# EAGLE library part A3935 (library allegro)
Three Phase Power MOSFET Controller Uses external MOSFETs, provides diagnostic outputs. Temp range -40 to 135 C
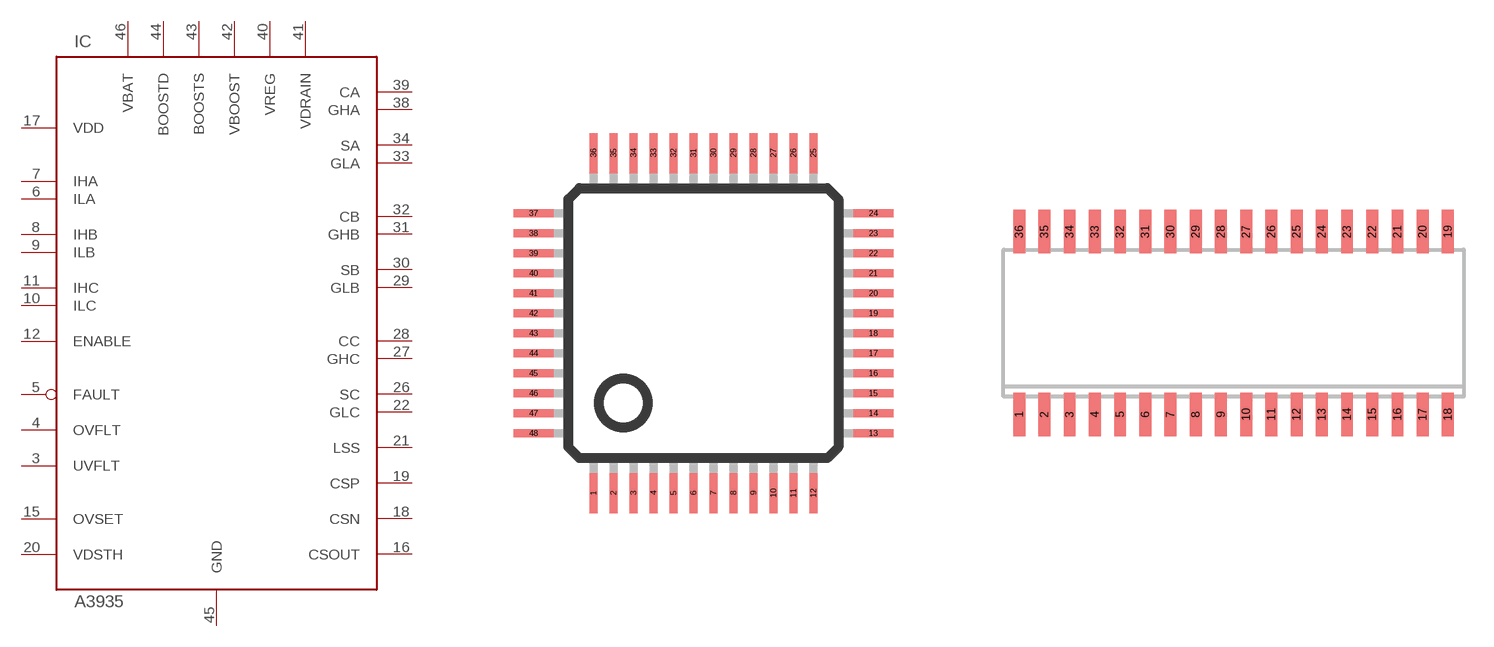
[diagram p5: symbol with the pads of LQFP48; footprints LQFP48, SO36W]

Designator prefix IC

## A3935KJP  [LQFP48]
3  UVFLT  out
4  OVFLT  out
5  FAULT  out
6  ILA  in
7  IHA  in
8  IHB  in
9  ILB  in
10  ILC  in
11  IHC  in
12  ENABLE  in
15  OVSET  in
16  CSOUT  out
17  VDD  pwr
18  CSN  in
19  CSP  in
20  VDSTH  in
21  LSS  pwr
22  GLC  out
26  SC  out
27  GHC  out
28  CC  out
29  GLB  out
30  SB  out
31  GHB  out
32  CB  out
33  GLA  out
34  SA  out
38  GHA  out
39  CA  out
40  VREG  pwr
41  VDRAIN  pwr
42  VBOOST
43  BOOSTS
44  BOOSTD
45  GND  pwr
46  VBAT  pwr

## A3935KLQ  [SO36W]
1  CSP  in
2  VDSTH  in
3  LSS  pwr
4  GLC  out
5  SC  out
6  GHC  out
7  CC  out
8  GLB  out
9  SB  out
10  GHB  out
11  CB  out
12  GLA  out
13  SA  out
14  GHA  out
15  CA  out
16  VREG  pwr
17  VDRAIN  pwr
18  VBOOST
19  BOOSTS
20  BOOSTD
21  GND  pwr
22  VBAT  pwr
23  UVFLT  out
24  OVFLT  out
25  FAULT  out
26  ILA  in
27  IHA  in
28  IHB  in
29  ILB  in
30  ILC  in
31  IHC  in
32  ENABLE  in
33  OVSET  in
34  CSOUT  out
35  VDD  pwr
36  CSN  in

## Footprint LQFP48 (pad centres in mm)
48-pin Low Profile Quad Flat Pack
smd 0.2 x 1: 1 -2.75,-4.25; 2 -2.25,-4.25; 3 -1.75,-4.25; 4 -1.25,-4.25; 5 -0.75,-4.25; 6 -0.25,-4.25; 7 0.25,-4.25; 8 0.75,-4.25; 9 1.25,-4.25; 10 1.75,-4.25; 11 2.25,-4.25; 12 2.75,-4.25; 25 2.75,4.25; 26 2.25,4.25; 27 1.75,4.25; 28 1.25,4.25; 29 0.75,4.25; 30 0.25,4.25; 31 -0.25,4.25; 32 -0.75,4.25; 33 -1.25,4.25; 34 -1.75,4.25; 35 -2.25,4.25; 36 -2.75,4.25
smd 1 x 0.2: 13 4.25,-2.75; 14 4.25,-2.25; 15 4.25,-1.75; 16 4.25,-1.25; 17 4.25,-0.75; 18 4.25,-0.25; 19 4.25,0.25; 20 4.25,0.75; 21 4.25,1.25; 22 4.25,1.75; 23 4.25,2.25; 24 4.25,2.75; 37 -4.25,2.75; 38 -4.25,2.25; 39 -4.25,1.75; 40 -4.25,1.25; 41 -4.25,0.75; 42 -4.25,0.25; 43 -4.25,-0.25; 44 -4.25,-0.75; 45 -4.25,-1.25; 46 -4.25,-1.75; 47 -4.25,-2.25; 48 -4.25,-2.75

## Footprint SO36W (pad centres in mm)
36-pin Small Outline Package
smd 0.6 x 2.2: 1 -10.795,-4.6; 2 -9.525,-4.6; 3 -8.255,-4.6; 4 -6.985,-4.6; 5 -5.715,-4.6; 6 -4.445,-4.6; 7 -3.175,-4.6; 8 -1.905,-4.6; 9 -0.635,-4.6; 10 0.635,-4.6; 11 1.905,-4.6; 12 3.175,-4.6; 13 4.445,-4.6; 14 5.715,-4.6; 15 6.985,-4.6; 16 8.255,-4.6; 17 9.525,-4.6; 18 10.795,-4.6; 19 10.795,4.6; 20 9.525,4.6; 21 8.255,4.6; 22 6.985,4.6; 23 5.715,4.6; 24 4.445,4.6; 25 3.175,4.6; 26 1.905,4.6; 27 0.635,4.6; 28 -0.635,4.6; 29 -1.905,4.6; 30 -3.175,4.6; 31 -4.445,4.6; 32 -5.715,4.6; 33 -6.985,4.6; 34 -8.255,4.6; 35 -9.525,4.6; 36 -10.795,4.6